# Altium schematic symbol library res1k1.SchLib: 1 symbol
Pins are listed as number, name and electrical type; pins without a type are passive.

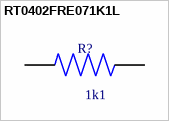
[diagram p0: symbol RT0402FRE071K1L]

## RT0402FRE071K1L
designator R?  value 1k1  (hidden comment: *)
Res Thin Film 0402 1.1K Ohm 1% 0.063W(1/16W) Â±50ppm/C Molded SMD Paper T/R; MF: Yageo; MP: RT0402FRE071K1L; SnapEDA_Link: https://www.snapeda.com/parts/RT0402FRE071K1L/Yageo/view-part/?ref=snap; Package: 1005 Yageo; Check_prices: https://www.snapeda.com/parts/RT0402FRE071K1L/Yageo/view-part/?ref=eda; LCSC Part Number: C138041
footprint RESC1005X35N
pins: 1, 2